# Altium schematic symbol library ConnLib.SchLib: 1 symbol
Pins are listed as number, name and electrical type; pins without a type are passive.

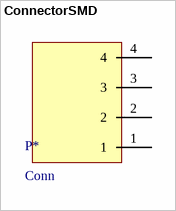
[diagram p0: symbol ConnectorSMD]

## ConnectorSMD
designator P*, comment Conn
footprint ConnFoot
pins: 1, 2, 3, 4